# EAGLE library part STM32F405R (library stm32f4)
STM32F405 64 pin LQFP reviewed: YES tested: YES
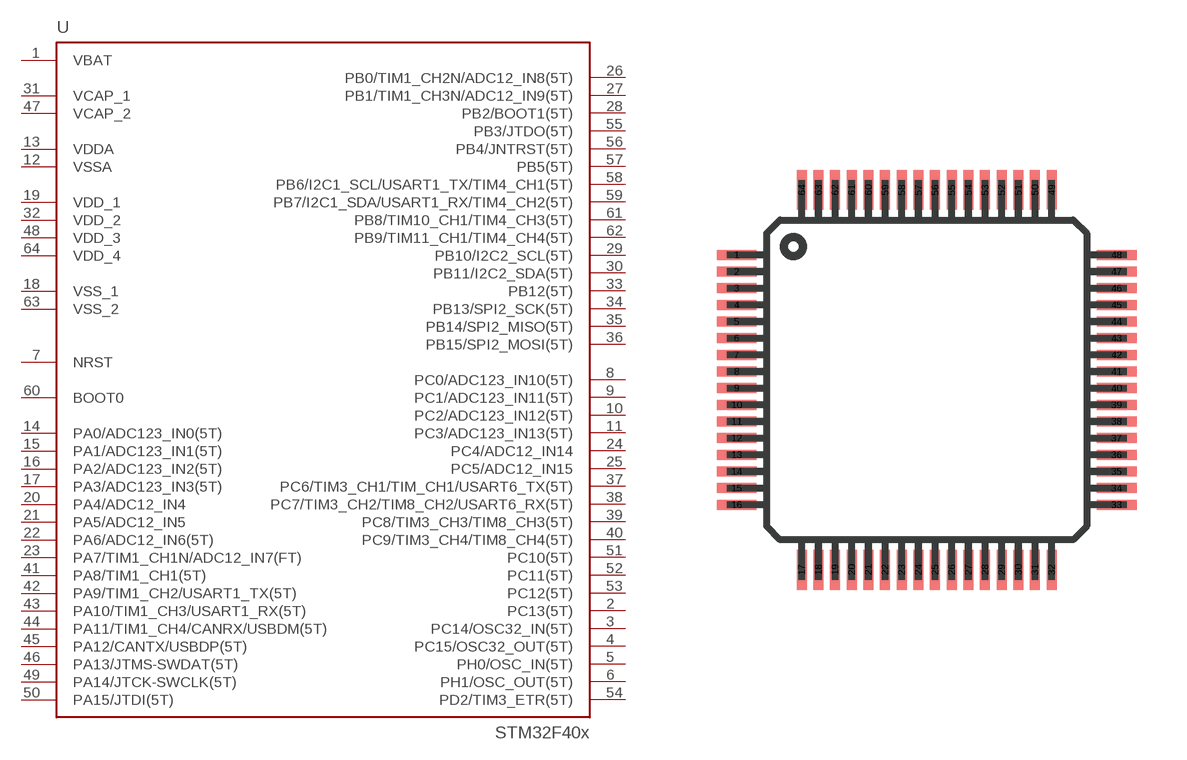
[diagram p2: symbol with the pads of TQFP64; footprint TQFP64]

Designator prefix -

## STM32F405R  [TQFP64]
1  VBAT
2  PC13(5T)
3  PC14/OSC32_IN(5T)
4  PC15/OSC32_OUT(5T)
5  PH0/OSC_IN(5T)
6  PH1/OSC_OUT(5T)
7  NRST
8  PC0/ADC123_IN10(5T)
9  PC1/ADC123_IN11(5T)
10  PC2/ADC123_IN12(5T)
11  PC3/ADC123_IN13(5T)
12  VSSA
13  VDDA
14  PA0/ADC123_IN0(5T)
15  PA1/ADC123_IN1(5T)
16  PA2/ADC123_IN2(5T)
17  PA3/ADC123_IN3(5T)
18  VSS_1
19  VDD_1
20  PA4/ADC12_IN4
21  PA5/ADC12_IN5
22  PA6/ADC12_IN6(5T)
23  PA7/TIM1_CH1N/ADC12_IN7(FT)
24  PC4/ADC12_IN14
25  PC5/ADC12_IN15
26  PB0/TIM1_CH2N/ADC12_IN8(5T)
27  PB1/TIM1_CH3N/ADC12_IN9(5T)
28  PB2/BOOT1(5T)
29  PB10/I2C2_SCL(5T)
30  PB11/I2C2_SDA(5T)
31  VCAP_1
32  VDD_2
33  PB12(5T)
34  PB13/SPI2_SCK(5T)
35  PB14/SPI2_MISO(5T)
36  PB15/SPI2_MOSI(5T)
37  PC6/TIM3_CH1/TIM_CH1/USART6_TX(5T)
38  PC7/TIM3_CH2/TIM8_CH2/USART6_RX(5T)
39  PC8/TIM3_CH3/TIM8_CH3(5T)
40  PC9/TIM3_CH4/TIM8_CH4(5T)
41  PA8/TIM1_CH1(5T)
42  PA9/TIM1_CH2/USART1_TX(5T)
43  PA10/TIM1_CH3/USART1_RX(5T)
44  PA11/TIM1_CH4/CANRX/USBDM(5T)
45  PA12/CANTX/USBDP(5T)
46  PA13/JTMS-SWDAT(5T)
47  VCAP_2
48  VDD_3
49  PA14/JTCK-SWCLK(5T)
50  PA15/JTDI(5T)
51  PC10(5T)
52  PC11(5T)
53  PC12(5T)
54  PD2/TIM3_ETR(5T)
55  PB3/JTDO(5T)
56  PB4/JNTRST(5T)
57  PB5(5T)
58  PB6/I2C1_SCL/USART1_TX/TIM4_CH1(5T)
59  PB7/I2C1_SDA/USART1_RX/TIM4_CH2(5T)
60  BOOT0
61  PB8/TIM10_CH1/TIM4_CH3(5T)
62  PB9/TIM11_CH1/TIM4_CH4(5T)
63  VSS_2
64  VDD_4

## Footprint TQFP64 (pad centres in mm)
smd 1.2 x 0.3: 1 -5.7,3.75; 2 -5.7,3.25; 3 -5.7,2.75; 4 -5.7,2.25; 5 -5.7,1.75; 6 -5.7,1.25; 7 -5.7,0.75; 8 -5.7,0.25; 9 -5.7,-0.25; 10 -5.7,-0.75; 11 -5.7,-1.25; 12 -5.7,-1.75; 13 -5.7,-2.25; 14 -5.7,-2.75; 15 -5.7,-3.25; 16 -5.7,-3.75; 33 5.7,-3.75; 34 5.7,-3.25; 35 5.7,-2.75; 36 5.7,-2.25; 37 5.7,-1.75; 38 5.7,-1.25; 39 5.7,-0.75; 40 5.7,-0.25; 41 5.7,0.25; 42 5.7,0.75; 43 5.7,1.25; 44 5.7,1.75; 45 5.7,2.25; 46 5.7,2.75; 47 5.7,3.25; 48 5.7,3.75
smd 0.3 x 1.2: 17 -3.75,-5.7; 18 -3.25,-5.7; 19 -2.75,-5.7; 20 -2.25,-5.7; 21 -1.75,-5.7; 22 -1.25,-5.7; 23 -0.75,-5.7; 24 -0.25,-5.7; 25 0.25,-5.7; 26 0.75,-5.7; 27 1.25,-5.7; 28 1.75,-5.7; 29 2.25,-5.7; 30 2.75,-5.7; 31 3.25,-5.7; 32 3.75,-5.7; 49 3.75,5.7; 50 3.25,5.7; 51 2.75,5.7; 52 2.25,5.7; 53 1.75,5.7; 54 1.25,5.7; 55 0.75,5.7; 56 0.25,5.7; 57 -0.25,5.7; 58 -0.75,5.7; 59 -1.25,5.7; 60 -1.75,5.7; 61 -2.25,5.7; 62 -2.75,5.7; 63 -3.25,5.7; 64 -3.75,5.7